# Altium footprint library LDO_DCDC.PcbLib: 20 footprints (part 2 of 2)
Each footprint in its own frame and in the unit in brackets; x right, y up, seen from the top. Pads: shape width x height; smd on the part's side, far side on the other; paste and mask are expansions set on the pad; w line width, h text height; cw(c..) or ccw(c..) is an arc to the next point about the centre after c.
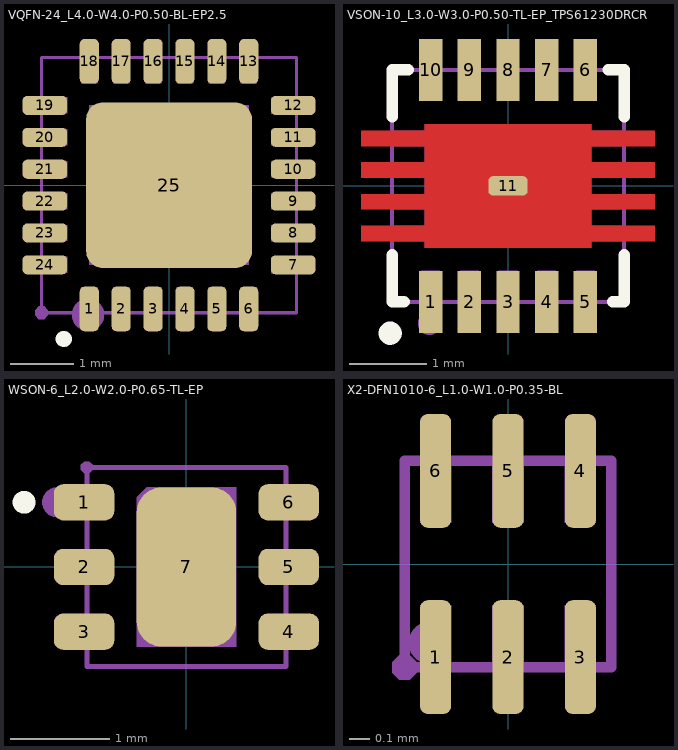
[diagram p1: the footprints below, top view; thin cyan lines are the x and y axes]

## VQFN-24_L4.0-W4.0-P0.50-BL-EP2.5 [mm]
pads (25):
  rrect50% 0.3x0.7 smd paste-100 mask+0.051: 1(-1.25,-1.942) 2(-0.75,-1.942) 3(-0.25,-1.942) 4(0.25,-1.942) 5(0.75,-1.942) 6(1.25,-1.942) 13(1.25,1.942) 14(0.75,1.942) 15(0.25,1.942) 16(-0.25,1.942) 17(-0.75,1.942) 18(-1.25,1.942)
  rrect50% 0.7x0.3 smd paste-100 mask+0.051: 7(1.948,-1.25) 8(1.948,-0.75) 9(1.948,-0.25) 10(1.948,0.25) 11(1.948,0.75) 12(1.948,1.25) 19(-1.948,1.25) 20(-1.948,0.75) 21(-1.948,0.25) 22(-1.948,-0.25) 23(-1.948,-0.75) 24(-1.948,-1.25)
  rrect20% 2.6x2.6 smd paste-100 mask+0.051: 25(0.001,-0.001)
Top Overlay:
  circle w0.254: c-1.651,-2.413 r0
Top Paste:
  region: -1.039,-1.041 -1.039,1.039 1.041,1.039 1.041,-1.041
  region: -2.298,-1.4 -2.298,-1.1 -1.598,-1.1 -1.598,-1.4
  region: -2.298,-0.9 -2.298,-0.6 -1.598,-0.6 -1.598,-0.9
  region: -2.298,-0.4 -2.298,-0.1 -1.598,-0.1 -1.598,-0.4
  region: -2.298,0.1 -2.298,0.4 -1.598,0.4 -1.598,0.1
  region: -2.298,0.6 -2.298,0.9 -1.598,0.9 -1.598,0.6
  region: -2.298,1.1 -2.298,1.4 -1.598,1.4 -1.598,1.1
  region: -1.4,2.292 -1.1,2.292 -1.1,1.592 -1.4,1.592
  region: -0.9,2.292 -0.6,2.292 -0.6,1.592 -0.9,1.592
  region: -0.4,2.292 -0.1,2.292 -0.1,1.592 -0.4,1.592
  region: 0.1,2.292 0.4,2.292 0.4,1.592 0.1,1.592
  region: 0.6,2.292 0.9,2.292 0.9,1.592 0.6,1.592
  region: 1.1,2.292 1.4,2.292 1.4,1.592 1.1,1.592
  region: 2.298,1.4 2.298,1.1 1.598,1.1 1.598,1.4
  region: 2.298,0.9 2.298,0.6 1.598,0.6 1.598,0.9
  region: 2.298,0.4 2.298,0.1 1.598,0.1 1.598,0.4
  region: 2.298,-0.1 2.298,-0.4 1.598,-0.4 1.598,-0.1
  region: 2.298,-0.6 2.298,-0.9 1.598,-0.9 1.598,-0.6
  region: 2.298,-1.1 2.298,-1.4 1.598,-1.4 1.598,-1.1
  region: 1.4,-2.292 1.1,-2.292 1.1,-1.592 1.4,-1.592
  region: 0.9,-2.292 0.6,-2.292 0.6,-1.592 0.9,-1.592
  region: 0.4,-2.292 0.1,-2.292 0.1,-1.592 0.4,-1.592
  region: -0.1,-2.292 -0.4,-2.292 -0.4,-1.592 -0.1,-1.592
  region: -0.6,-2.292 -0.9,-2.292 -0.9,-1.592 -0.6,-1.592
  region: -1.1,-2.292 -1.4,-2.292 -1.4,-1.592 -1.1,-1.592
Mechanical 6:
  circle w0.254: c-1.27,-2.032 r0.127
Mechanical 15:
  region: -1.9,-2 -1.9,-1.959 -1.959,-1.9 -2.041,-1.9 -2.1,-1.959 -2.1,-2 -2.1,-2.042 -2.041,-2.1 -1.959,-2.1 -1.9,-2.042 -1.9,-2
  region: -1.249,1.249 1.251,1.249 1.251,-1.251 -1.249,-1.251
  region: -1.375,-2 -1.375,-1.6 -1.125,-1.6 -1.125,-2
  region: -0.875,-2 -0.875,-1.6 -0.625,-1.6 -0.625,-2
  region: -0.375,-2 -0.375,-1.6 -0.125,-1.6 -0.125,-2
  region: 0.125,-2 0.125,-1.6 0.375,-1.6 0.375,-2
  region: 0.625,-2 0.625,-1.6 0.875,-1.6 0.875,-2
  region: 1.125,-2 1.125,-1.6 1.375,-1.6 1.375,-2
  region: 1.376,1.998 1.376,1.598 1.126,1.598 1.126,1.998
  region: 0.877,1.998 0.877,1.598 0.627,1.598 0.627,1.998
  region: 0.376,1.998 0.376,1.598 0.126,1.598 0.126,1.998
  region: -0.123,1.998 -0.123,1.598 -0.373,1.598 -0.373,1.998
  region: -0.624,1.998 -0.624,1.598 -0.874,1.598 -0.874,1.998
  region: -1.123,1.998 -1.123,1.598 -1.373,1.598 -1.373,1.998
  region: 2,-1.378 1.6,-1.378 1.6,-1.128 2,-1.128
  region: 2,-0.878 1.6,-0.878 1.6,-0.628 2,-0.628
  region: 2,-0.378 1.6,-0.378 1.6,-0.128 2,-0.128
  region: 2,0.122 1.6,0.122 1.6,0.372 2,0.372
  region: 2,0.622 1.6,0.622 1.6,0.872 2,0.872
  region: 2,1.122 1.6,1.122 1.6,1.372 2,1.372
  region: -1.997,1.375 -1.597,1.375 -1.597,1.125 -1.997,1.125
  region: -1.997,0.875 -1.597,0.875 -1.597,0.625 -1.997,0.625
  region: -1.997,0.375 -1.597,0.375 -1.597,0.125 -1.997,0.125
  region: -1.997,-0.125 -1.597,-0.125 -1.597,-0.375 -1.997,-0.375
  region: -1.997,-0.625 -1.597,-0.625 -1.597,-0.875 -1.997,-0.875
  region: -1.997,-1.125 -1.597,-1.125 -1.597,-1.375 -1.997,-1.375
  lines w0.051: -2,-2 2,-2 2,2 -2,2 -2,-2
3D body "QFN 24.STEP": height 0.9, standoff 0, extent -2.07,-2.07 2.07,2.07

## VSON-10_L3.0-W3.0-P0.50-TL-EP_TPS61230DRCR [mm]
pads (11):
  rect 0.3x0.8 smd: 1(-1,-1.5) 2(-0.5,-1.5) 3(0,-1.5) 4(0.5,-1.5) 5(1,-1.5) 6(1,1.5) 7(0.5,1.5) 8(0,1.5) 9(-0.5,1.5) 10(-1,1.5)
  rrect50% 0.508x0.254 smd: 11(0,0)
Top Layer:
  region: -1.075,0.8 -1.075,0.715 -1.9,0.715 -1.9,0.515 -1.075,0.515 -1.075,0.305 -1.9,0.305 -1.9,0.105 -1.075,0.105 -1.075,-0.105 -1.9,-0.105 -1.9,-0.305 -1.075,-0.305 -1.075,-0.515 -1.9,-0.515 -1.9,-0.715 -1.075,-0.715 -1.075,-0.8 1.075,-0.8 1.075,-0.715 1.9,-0.715 1.9,-0.515 1.075,-0.515 1.075,-0.305 1.9,-0.305 1.9,-0.105 1.075,-0.105 1.075,0.105 1.9,0.105 1.9,0.305 1.075,0.305 1.075,0.515 1.9,0.515 1.9,0.715 1.075,0.715 1.075,0.8
Top Overlay:
  circle w0.15: c-1.524,-1.905 r0.075
  lines w0.15: -1.496,-0.894 -1.496,-1.498 -1.345,-1.498 ; -1.496,0.894 -1.496,1.502 -1.29,1.502 ; 1.298,1.502 1.504,1.502 1.504,0.894 ; 1.353,-1.498 1.504,-1.498 1.504,-0.894
Mechanical 6:
  circle w0.15: c-1.016,-1.778 r0.075
Mechanical 15:
  region: -1.44,-1.5 -1.44,-1.475 -1.475,-1.44 -1.525,-1.44 -1.56,-1.475 -1.56,-1.5 -1.56,-1.525 -1.525,-1.56 -1.475,-1.56 -1.44,-1.525 -1.44,-1.5
  region: 0.12,-1.1 0.12,-1.5 -0.12,-1.5 -0.12,-1.1
  region: -0.12,1.1 -0.12,1.5 0.12,1.5 0.12,1.1
  region: -1.12,-1.5 -1.12,-1.1 -0.88,-1.1 -0.88,-1.5
  region: -0.62,-1.5 -0.62,-1.1 -0.38,-1.1 -0.38,-1.5
  region: 0.38,-1.5 0.38,-1.1 0.62,-1.1 0.62,-1.5
  region: 0.88,-1.5 0.88,-1.1 1.12,-1.1 1.12,-1.5
  region: 0.88,1.1 0.88,1.5 1.12,1.5 1.12,1.1
  region: 0.38,1.1 0.38,1.5 0.62,1.5 0.62,1.1
  region: -1.12,1.1 -1.12,1.5 -0.88,1.5 -0.88,1.1
  region: -0.62,1.1 -0.62,1.5 -0.38,1.5 -0.38,1.1
  region: -1.075,0.8 -1.075,0.715 -1.5,0.715 -1.5,0.515 -1.075,0.515 -1.075,0.305 -1.5,0.305 -1.5,0.105 -1.075,0.105 -1.075,-0.105 -1.5,-0.105 -1.5,-0.305 -1.075,-0.305 -1.075,-0.515 -1.5,-0.515 -1.5,-0.715 -1.075,-0.715 -1.075,-0.8 1.075,-0.8 1.075,-0.715 1.5,-0.715 1.5,-0.515 1.075,-0.515 1.075,-0.305 1.5,-0.305 1.5,-0.105 1.075,-0.105 1.075,0.105 1.5,0.105 1.5,0.305 1.075,0.305 1.075,0.515 1.5,0.515 1.5,0.715 1.075,0.715 1.075,0.8
  lines w0.051: -1.5,-1.5 1.5,-1.5 1.5,1.5 -1.5,1.5 -1.5,-1.5

## WSON-6_L2.0-W2.0-P0.65-TL-EP [mm]
pads (7):
  rrect50% 0.607x0.364 smd: 1(-1.028,0.65) 2(-1.028,0) 3(-1.028,-0.65) 4(1.028,-0.65) 5(1.028,0) 6(1.028,0.65)
  rrect50% 1x1.6 smd: 7(0,0)
Top Overlay:
  circle w0.127: c-1.632,0.65 r0.051
Mechanical 6:
  circle w0.15: c-1.3,0.65 r0.075
Mechanical 15:
  region: -0.4,0.8 0.5,0.8 0.5,-0.8 -0.5,-0.8 -0.5,0.7
  region: 1,0.8 0.75,0.8 0.75,0.5 1,0.5
  region: 1,0.15 0.75,0.15 0.75,-0.15 1,-0.15
  region: 1,-0.5 0.75,-0.5 0.75,-0.8 1,-0.8
  region: -1,-0.5 -0.75,-0.5 -0.75,-0.8 -1,-0.8
  region: -1,0.15 -0.75,0.15 -0.75,-0.15 -1,-0.15
  region: -1,0.8 -0.75,0.8 -0.75,0.5 -1,0.5
  region: -0.94,1 -0.94,1.025 -0.975,1.06 -1.025,1.06 -1.06,1.025 -1.06,1 -1.06,0.975 -1.025,0.94 -0.975,0.94 -0.94,0.975 -0.94,1
  lines w0.051: -1,-1 -1,1 1,1 1,-1 -1,-1
3D body "User Library-wson6-drv.STEP": height 0.8, standoff 0, extent -1.01,-1 1.01,1

## X2-DFN1010-6_L1.0-W1.0-P0.35-BL [mm]
pads (6):
  rrect50% 0.15x0.55 smd: 1(-0.35,-0.45) 2(0,-0.45) 3(0.35,-0.45) 4(0.35,0.45) 5(0,0.45) 6(-0.35,0.45)
Mechanical 6:
  circle w0.1: c-0.381,-0.381 r0.05
Mechanical 15:
  region: -0.44,-0.5 -0.44,-0.475 -0.475,-0.44 -0.525,-0.44 -0.56,-0.475 -0.56,-0.5 -0.56,-0.525 -0.525,-0.56 -0.475,-0.56 -0.44,-0.525 -0.44,-0.5
  region: -0.275,-0.5 -0.425,-0.5 -0.425,-0.2 -0.275,-0.2
  region: 0.075,-0.5 -0.075,-0.5 -0.075,-0.2 0.075,-0.2
  region: 0.425,-0.5 0.275,-0.5 0.275,-0.2 0.425,-0.2
  region: 0.425,0.2 0.275,0.2 0.275,0.5 0.425,0.5
  region: 0.075,0.2 -0.075,0.2 -0.075,0.5 0.075,0.5
  region: -0.275,0.2 -0.425,0.2 -0.425,0.5 -0.275,0.5
  lines w0.051: -0.5,-0.5 -0.5,0.5 0.5,0.5 0.5,-0.5 -0.5,-0.5